# EAGLE library part KLEMME_2-16 (library e-klemmen)
Klemme 2 16
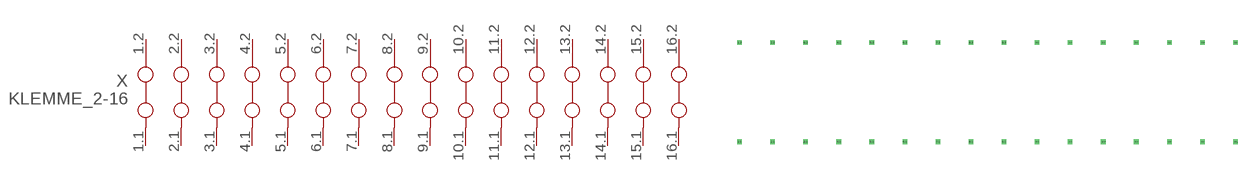
[diagram p71: symbol with the pads of KLEMME_2-16; footprint KLEMME_2-16]

Designator prefix X

## KLEMME_2-16  [KLEMME_2-16]
1.1  1.1  pas
1.2  1.2  pas
2.1  2.1  pas
2.2  2.2  pas
3.1  3.1  pas
3.2  3.2  pas
4.1  4.1  pas
4.2  4.2  pas
5.1  5.1  pas
5.2  5.2  pas
6.1  6.1  pas
6.2  6.2  pas
7.1  7.1  pas
7.2  7.2  pas
8.1  8.1  pas
8.2  8.2  pas
9.1  9.1  pas
9.2  9.2  pas
10.1  10.1  pas
10.2  10.2  pas
11.1  11.1  pas
11.2  11.2  pas
12.1  12.1  pas
12.2  12.2  pas
13.1  13.1  pas
13.2  13.2  pas
14.1  14.1  pas
14.2  14.2  pas
15.1  15.1  pas
15.2  15.2  pas
16.1  16.1  pas
16.2  16.2  pas

## Footprint KLEMME_2-16 (pad centres in mm)
Dummy
drill 0.2 pad 0.6 square: 1.1 0,-7.62; 1.2 0,7.62; 2.1 5.08,-7.62; 2.2 5.08,7.62; 3.1 10.16,-7.62; 3.2 10.16,7.62; 4.1 15.24,-7.62; 4.2 15.24,7.62; 5.1 20.32,-7.62; 5.2 20.32,7.62; 6.1 25.4,-7.62; 6.2 25.4,7.62; 7.1 30.48,-7.62; 7.2 30.48,7.62; 8.1 35.56,-7.62; 8.2 35.56,7.62; 9.1 40.64,-7.62; 9.2 40.64,7.62; 10.1 45.72,-7.62; 10.2 45.72,7.62; 11.1 50.8,-7.62; 11.2 50.8,7.62; 12.1 55.88,-7.62; 12.2 55.88,7.62; 13.1 60.96,-7.62; 13.2 60.96,7.62; 14.1 66.04,-7.62; 14.2 66.04,7.62; 15.1 71.12,-7.62; 15.2 71.12,7.62; 16.1 76.2,-7.62; 16.2 76.2,7.62